# Altium footprint library Diode_Nexperia_BAT54C,215_eec_IPC_A.PcbLib: 1 footprints
Each footprint in its own frame and in the unit in brackets; x right, y up, seen from the top. Pads: shape width x height; smd on the part's side, far side on the other; paste and mask are expansions set on the pad; w line width, h text height; cw(c..) or ccw(c..) is an arc to the next point about the centre after c.
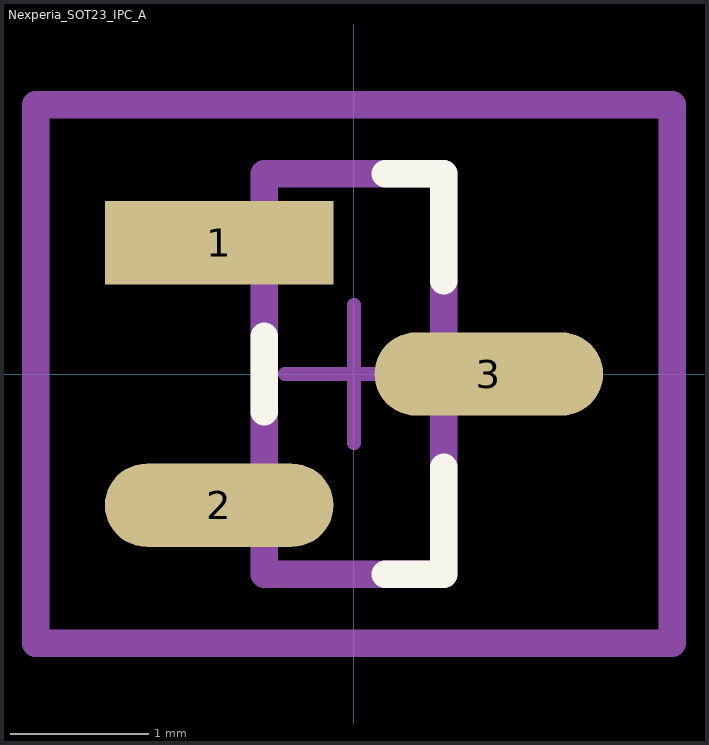
[diagram p0: the footprint, top view; thin cyan lines are the x and y axes]

## Nexperia_SOT23_IPC_A [mm]
pads (3):
  rect 1.655x0.602 smd paste+0 mask+0: 1(-0.975,0.95)
  rrect100% 1.655x0.602 smd paste+0 mask+0: 2(-0.975,-0.95) 3(0.975,0)
Top Overlay:
  lines w0.2: -0.65,-0.274 -0.65,0.274 ; 0.227,-1.45 0.65,-1.45 0.65,-0.676 ; 0.227,1.45 0.65,1.45 0.65,0.676
Mechanical 10:
  lines w0.2: -2.303,-1.95 2.303,-1.95 2.303,1.95 -2.303,1.95 -2.303,-1.95
  text ".Designator" at 0,0 h1
Mechanical 12:
  lines w0.2: -0.65,-1.45 0.65,-1.45 0.65,1.45 -0.65,1.45 -0.65,-1.45
Mechanical 15:
  lines w0.1: -0.5,0 0.5,0 ; 0,-0.5 0,0.5
  lines w0.2: -2.303,-1.95 2.303,-1.95 2.303,1.95 -2.303,1.95 -2.303,-1.95
3D body "Diode_Nexperia_BAT54C,215_eec.STEP": height 0.25, standoff 0, extent -2.303,-1.95 2.303,1.95